# EAGLE library part ESP32-CAM (library NEON-BLADE-2024-new)
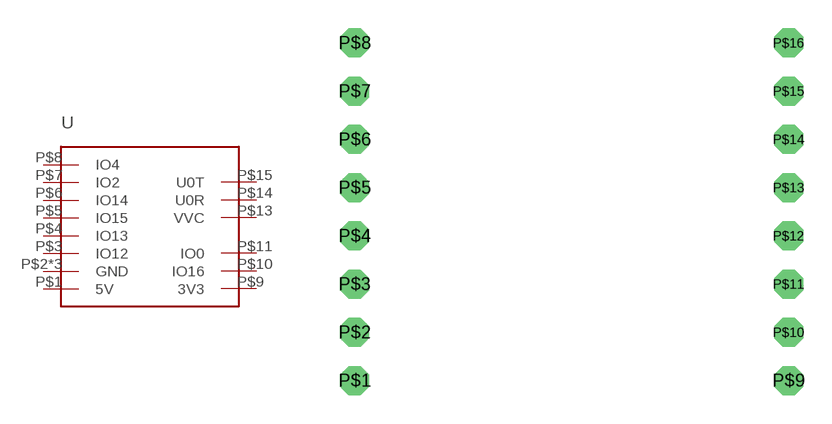
[diagram p39: symbol with the pads of ESP32-CAM; footprint ESP32-CAM]

Designator prefix -

## ESP32-CAM  [ESP32-CAM]
P$1  5V
P$2  GND
P$3  IO12
P$4  IO13
P$5  IO15
P$6  IO14
P$7  IO2
P$8  IO4
P$9  3V3
P$10  IO16
P$11  IO0
P$12  GND
P$13  VVC
P$14  U0R
P$15  U0T
P$16  GND

## Footprint ESP32-CAM (pad centres in mm)
drill 1.016 octagon: P$1 -11.43,-15.42; P$2 -11.43,-12.88; P$3 -11.43,-10.34; P$4 -11.43,-7.8; P$5 -11.43,-5.26; P$6 -11.43,-2.72; P$7 -11.43,-0.18; P$8 -11.43,2.36; P$9 11.43,-15.42; P$10 11.43,-12.88; P$11 11.43,-10.34; P$12 11.43,-7.8; P$13 11.43,-5.26; P$14 11.43,-2.72; P$15 11.43,-0.18; P$16 11.43,2.36